# EAGLE library part POLOLU_DRV8833 (library CMU-ArtFab)
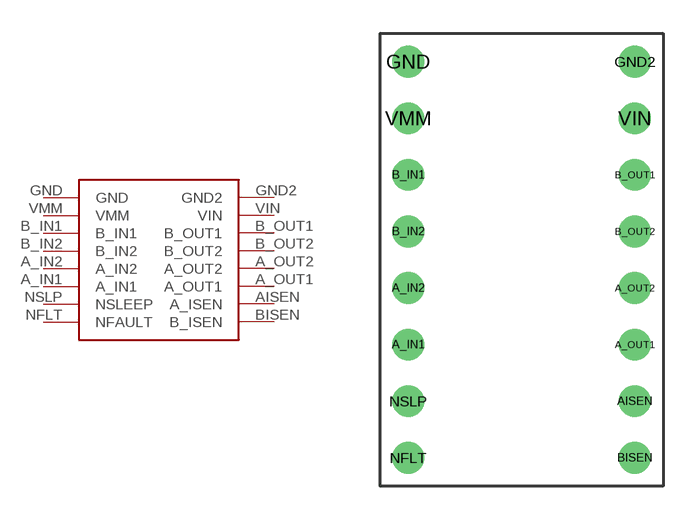
[diagram p3: symbol with the pads of POLOLU_DRV8833; footprint POLOLU_DRV8833]

Designator prefix -

## POLOLU_DRV8833  [POLOLU_DRV8833]
A_IN1  A_IN1
A_IN2  A_IN2
A_OUT1  A_OUT1
A_OUT2  A_OUT2
AISEN  A_ISEN
B_IN1  B_IN1
B_IN2  B_IN2
B_OUT1  B_OUT1
B_OUT2  B_OUT2
BISEN  B_ISEN
GND  GND
GND2  GND2
NFLT  NFAULT
NSLP  NSLEEP
VIN  VIN
VMM  VMM

## Footprint POLOLU_DRV8833 (pad centres in mm)
drill 0.8 pad 1.422: A_IN1 -2.54,-8.89; A_IN2 -2.54,-6.35; A_OUT1 7.62,-8.89; A_OUT2 7.62,-6.35; AISEN 7.62,-11.43; B_IN1 -2.54,-1.27; B_IN2 -2.54,-3.81; B_OUT1 7.62,-1.27; B_OUT2 7.62,-3.81; BISEN 7.62,-13.97; GND -2.54,3.81; GND2 7.62,3.81; NFLT -2.54,-13.97; NSLP -2.54,-11.43; VIN 7.62,1.27; VMM -2.54,1.27